# Altium footprint library USB4145-03-0230-C.PcbLib: 1 footprints
Each footprint in its own frame and in the unit in brackets; x right, y up, seen from the top. Pads: shape width x height; smd on the part's side, far side on the other; paste and mask are expansions set on the pad; w line width, h text height; cw(c..) or ccw(c..) is an arc to the next point about the centre after c.
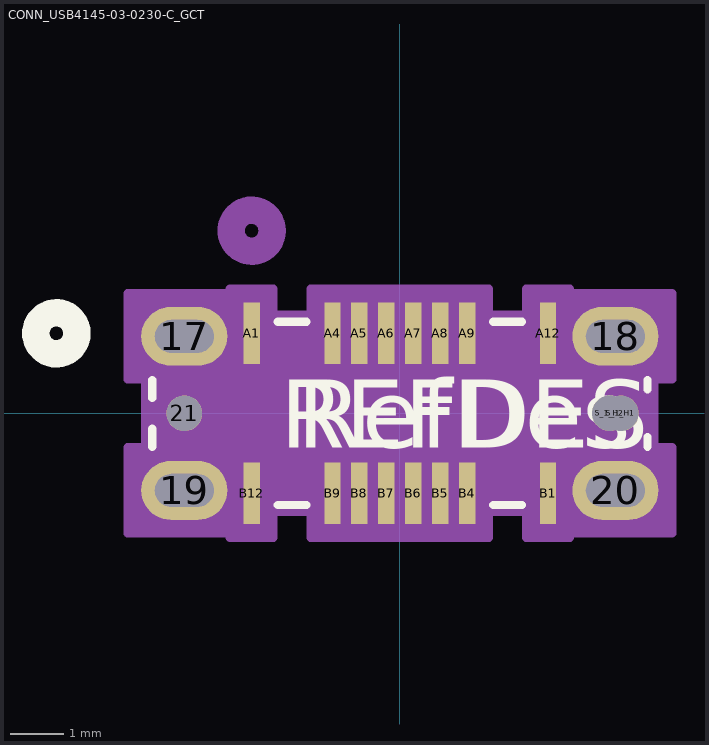
[diagram p0: the footprint, top view; thin cyan lines are the x and y axes]

## CONN_USB4145-03-0230-C_GCT [mil]
pads (23):
  oval 63x43 on Top hole 24 slot 43 at 0 deg paste-31.5 mask-31.5: 17(-157.48,56.3) 18(157.48,56.3) 19(-157.48,-56.3) 20(157.48,-56.3)
  round 26 / inner round 60 / far side round 26 hole 26 unplated paste+0 mask+0: 21(-157.48,0) S_1_H1(161.48,0) S_1_H2(153.48,0)
  rect 12x45 smd paste+0 mask+0: A1(-108.27,58.46) A4(-49.21,58.46) A5(-29.53,58.46) A6(-9.84,58.46) A7(9.84,58.46) A8(29.53,58.46) A9(49.21,58.46) A12(108.27,58.46) B1(108.27,-58.46) B4(49.21,-58.46) B5(29.53,-58.46) B6(9.84,-58.46) B7(-9.84,-58.46) B8(-29.53,-58.46) B9(-49.21,-58.46) B12(-108.27,-58.46)
Top Overlay:
  circle w20: c-251,58.46 r15
  lines w6: -181,-24.45 -181,-11.32 ; -181,11.32 -181,24.45 ; -89.17,-67 -68.31,-67 ; -89.17,67 -68.31,67 ; 68.31,-67 89.17,-67 ; 68.31,67 89.17,67 ; 181,-24.45 181,-17.33 ; 181,17.33 181,24.45
  text "REFDES" at -87.5,-25 h50
  text "RefDes" at -75,-25 h50
Mechanical 13:
  circle w20: c-108.27,133.46 r15
  lines w1: -176,-62 176,-62 176,62 -176,62 -176,-62
  text "RefDes2" at -87.5,-25 h50
Mechanical 15:
  region: -124.27,-87.8 -124.27,-90.96 -92.27,-90.96 -92.27,-72 -65.21,-72 -65.21,-90.96 65.21,-90.96 65.21,-72 92.27,-72 92.27,-90.96 124.27,-90.96 124.27,-87.8 198.98,-87.8 198.98,-24.8 186,-24.8 186,24.8 198.98,24.8 198.98,87.8 124.27,87.8 124.27,90.96 92.27,90.96 92.27,72 65.21,72 65.21,90.96 -65.21,90.96 -65.21,72 -92.27,72 -92.27,90.96 -124.27,90.96 -124.27,87.8 -198.98,87.8 -198.98,24.8 -186,24.8 -186,-24.8 -198.98,-24.8 -198.98,-87.8
  lines w6: -198.98,-87.8 -198.98,-24.8 -186,-24.8 -186,24.8 -198.98,24.8 -198.98,87.8 -124.27,87.8 -124.27,90.96 -92.27,90.96 -92.27,72 -65.21,72 -65.21,90.96 65.21,90.96 65.21,72 92.27,72 92.27,90.96 124.27,90.96 124.27,87.8 198.98,87.8 198.98,24.8 186,24.8 186,-24.8 198.98,-24.8 198.98,-87.8 124.27,-87.8 124.27,-90.96 92.27,-90.96 92.27,-72 65.21,-72 65.21,-90.96 -65.21,-90.96 -65.21,-72 -92.27,-72 -92.27,-90.96 -124.27,-90.96 -124.27,-87.8 -198.98,-87.8
Multi-Layer:
  lines w26: 153.48,0 161.48,0